# EAGLE library part BMP085 (library custom)
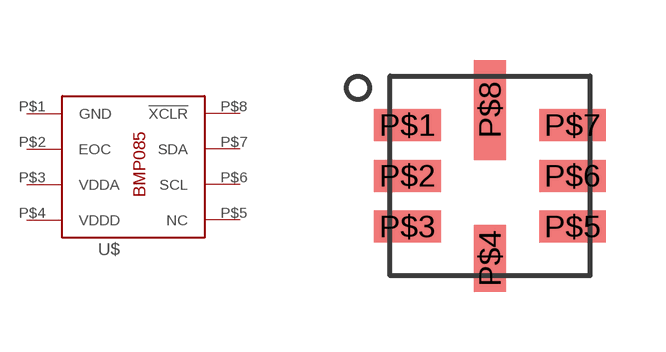
[diagram p12: symbol with the pads of BMP085; footprint BMP085]

Designator prefix U$

## BMP085  [BMP085]
P$1  GND
P$2  EOC
P$3  VDDA
P$4  VDDD
P$5  NC
P$6  SCL
P$7  SDA
P$8  !XCLR

## Footprint BMP085 (pad centres in mm)
smd 1.67 x 0.8: P$1 -2.065,1.27; P$2 -2.065,0; P$3 -2.065,-1.27; P$5 2.065,-1.27; P$6 2.065,0; P$7 2.065,1.27
smd 0.8 x 1.67: P$4 0,-2.065
smd 0.8 x 2.5: P$8 0,1.65